# Altium schematic symbol library ADS1235QWRHMRQ1.SchLib: 1 symbol
Pins are listed as number, name and electrical type; pins without a type are passive.

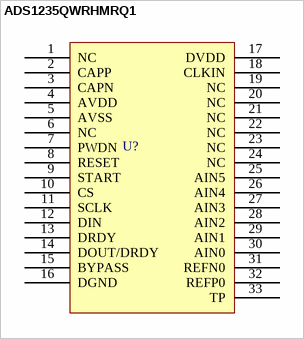
[diagram p0: symbol ADS1235QWRHMRQ1]

## ADS1235QWRHMRQ1
designator U?
Analog to Digital Converters - ADC Automotive 24-bit 7 .2-kSPS 3-ch differ
pins: 1 NC, 2 CAPP, 3 CAPN, 4 AVDD, 5 AVSS, 6 NC, 7 PWDN, 8 RESET, 9 START, 10 CS, 11 SCLK, 12 DIN, 13 DRDY, 14 DOUT/DRDY, 15 BYPASS, 16 DGND, 17 DVDD, 18 CLKIN, 19 NC, 20 NC, 21 NC, 22 NC, 23 NC, 24 NC, 25 AIN5, 26 AIN4, 27 AIN3, 28 AIN2, 29 AIN1, 30 AIN0, 31 REFN0, 32 REFP0, 33 TP